# Altium footprint library board.PcbLib: 19 footprints (part 1 of 2)
Each footprint in its own frame and in the unit in brackets; x right, y up, seen from the top. Pads: shape width x height; smd on the part's side, far side on the other; paste and mask are expansions set on the pad; w line width, h text height; cw(c..) or ccw(c..) is an arc to the next point about the centre after c.
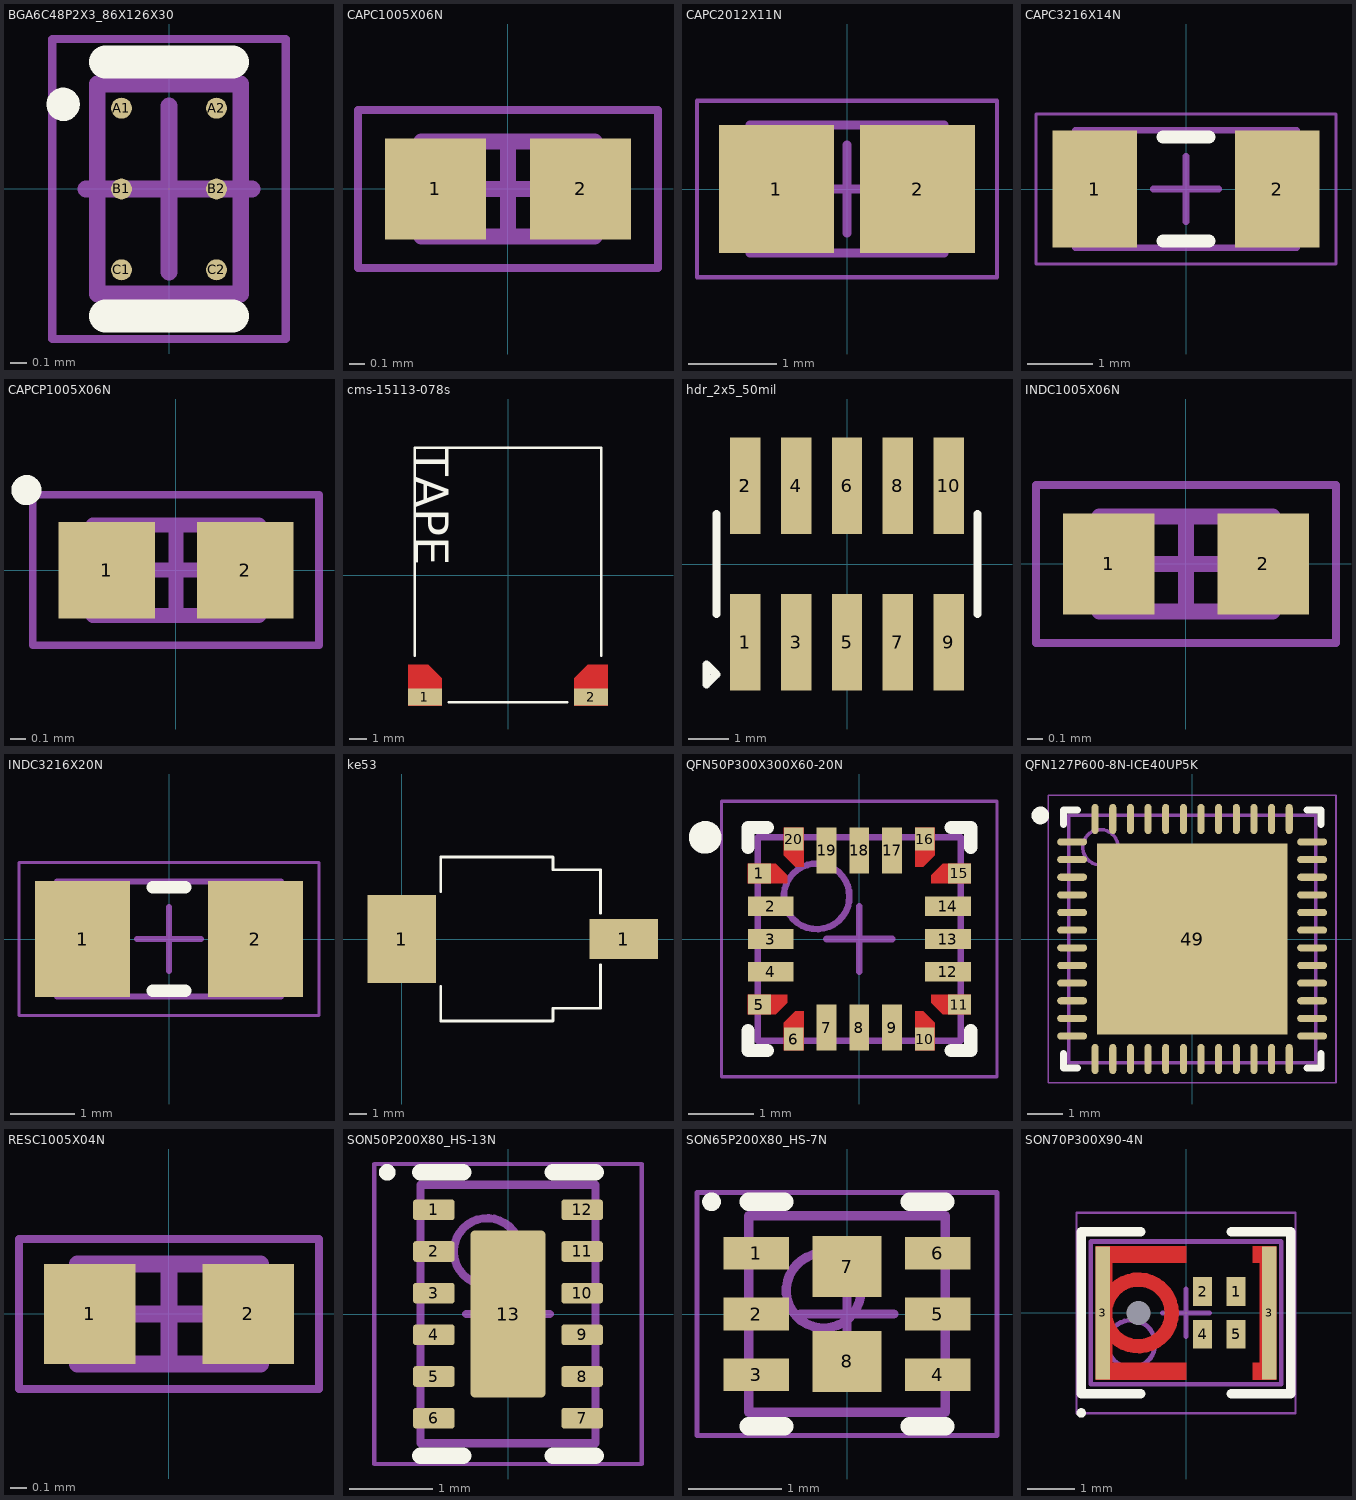
[diagram p0: the footprints below, top view; thin cyan lines are the x and y axes]

## BGA6C48P2X3_86X126X30 [mm] "BGA, 6-Leads, Body 0,86x1,26mmx0,30mm, Pitch 0,49mm"
height 0.3
pads (6):
  round 0.126 smd mask+0.05: A1(-0.285,0.485) A2(0.285,0.485) B1(-0.285,0) B2(0.285,0) C1(-0.285,-0.485) C2(0.285,-0.485)
Top Overlay:
  circle w0.1: c-0.635,0.508 r0.05
  lines w0.2: -0.381,-0.762 0.381,-0.762 ; -0.381,0.762 0.381,0.762
Mechanical 13:
  lines w0.1: -0.43,-0.63 -0.43,0.63 0.43,0.63 0.43,-0.63 -0.43,-0.63
Mechanical 15:
  lines w0.05: -0.7,-0.9 -0.7,0.9 0.7,0.9 0.7,-0.9 -0.7,-0.9
  lines w0.1: -0.5,0 0.5,0 ; 0,-0.5 0,0.5
3D body "BGA6C48P2X3_86X126X30.step": height 0.3, standoff 0, extent -0.43,-0.63 0.43,0.63

## CAPC1005X06N [mm] "Chip Capacitor, 2-Leads, Body 1.00x0.50mm, IPC Medium Density"
height 0.6
pads (2):
  rect 0.64x0.64 smd: 1(-0.46,0) 2(0.46,0)
Mechanical 13:
  lines w0.1: -0.55,-0.3 0.55,-0.3 0.55,0.3 -0.55,0.3 -0.55,-0.3
Mechanical 15:
  lines w0.05: -0.95,-0.5 0.95,-0.5 0.95,0.5 -0.95,0.5 -0.95,-0.5
  lines w0.1: -0.3,0 0.3,0 ; 0,-0.3 0,0.3
3D body "CAPC1005X06N.step": height 0.6, standoff 0, extent -0.55,-0.3 0.55,0.3

## CAPC2012X11N [mm] "Chip Capacitor, 2-Leads, Body 2.00x1.25mm, IPC Medium Density"
height 1.1
pads (2):
  rect 1.3x1.45 smd: 1(-0.8,0) 2(0.8,0)
Mechanical 13:
  lines w0.1: -1.1,-0.725 -1.1,0.725 1.1,0.725 1.1,-0.725 -1.1,-0.725
Mechanical 15:
  lines w0.05: -1.7,-1 -1.7,1 1.7,1 1.7,-1 -1.7,-1
  lines w0.1: -0.5,0 0.5,0 ; 0,-0.5 0,0.5
3D body "CAPC2012X11N.step": height 1.1, standoff 0, extent -1.1,-0.725 1.1,0.725

## CAPC3216X14N [mm] "Chip Capacitor, 2-Leads, Body 3.20x1.60mm, IPC Medium Density"
height 1.35
pads (2):
  rect 1.3x1.8 smd: 1(-1.4,0) 2(1.4,0)
Top Overlay:
  lines w0.2: -0.35,-0.8 0.35,-0.8 ; -0.35,0.8 0.35,0.8
Mechanical 13:
  lines w0.1: -1.7,-0.9 -1.7,0.9 1.7,0.9 1.7,-0.9 -1.7,-0.9
Mechanical 15:
  lines w0.05: -2.3,-1.15 -2.3,1.15 2.3,1.15 2.3,-1.15 -2.3,-1.15
  lines w0.1: -0.5,0 0.5,0 ; 0,-0.5 0,0.5
3D body "CAPC3216X14N.step": height 1.35, standoff 0, extent -1.7,-0.9 1.7,0.9

## CAPCP1005X06N [mm] "Chip Capacitor, 2-Leads, Body 1.00x0.50mm, IPC Medium Density"
height 0.6
pads (2):
  rect 0.64x0.64 smd: 1(-0.46,0) 2(0.46,0)
Top Overlay:
  circle w0.1: c-0.992,0.532 r0.05
Mechanical 13:
  lines w0.1: -0.55,-0.3 -0.55,0.3 0.55,0.3 0.55,-0.3 -0.55,-0.3
Mechanical 15:
  lines w0.05: -0.95,-0.5 -0.95,0.5 0.95,0.5 0.95,-0.5 -0.95,-0.5
  lines w0.1: -0.3,0 0.3,0 ; 0,-0.3 0,0.3
3D body "APHHS1005.STEP": height 0.5, standoff 0, extent -0.5,-0.25 0.5,0.25

## cms-15113-078s [mm]
pads (2):
  rect 2x1 smd: 1(-4.9,-7.2) 2(4.9,-7.2)
Top Layer:
  region: -3.9,-7.7 -3.9,-6.1 -4.7,-5.3 -5.9,-5.3 -5.9,-7.7
  region: 3.9,-7.7 3.9,-6.1 4.7,-5.3 5.9,-5.3 5.9,-7.7
Top Overlay:
  lines w0.152: -5.5,-4.75 -5.5,7.5 5.5,7.5 5.5,-4.75 ; -3.5,-7.5 3.5,-7.5
  text "TAPE" at -5.5,7.5 h2
3D body "CUI_INC_CMS-15113-078S.step": height 3.2, standoff -0.78, extent -5.5,-7.5 5.5,7.5

## hdr_2x5_50mil [mm] "2x5 Pin header, 50mil pitch"
pads (11):
  rect 0.76x2.4 smd: 1(-2.54,-1.95) 2(-2.54,1.95) 2(-2.54,1.95) 3(-1.27,-1.95) 4(-1.27,1.95) 5(0,-1.95) 6(0,1.95) 7(1.27,-1.95) 8(1.27,1.95) 9(2.54,-1.95) 10(2.54,1.95)
Top Overlay:
  lines w0.2: -3.25,-1.25 -3.25,1.25 ; 3.25,-1.25 3.25,1.25 ; -3.5,-3 -3.5,-2.5 -3.25,-2.75 -3.5,-3
3D body "20021121-00010XXLFc.stp": height 4.5, standoff 0, extent -3.175,-2.75 3.175,2.75

## INDC1005X06N [mm] "Chip Inductor, 2-Leads, Body 1.00x0.50mm, IPC Medium Density"
height 0.6
pads (2):
  rect 0.58x0.64 smd: 1(-0.49,0) 2(0.49,0)
Mechanical 13:
  lines w0.1: -0.55,-0.3 -0.55,0.3 0.55,0.3 0.55,-0.3 -0.55,-0.3
Mechanical 15:
  lines w0.05: -0.95,-0.5 -0.95,0.5 0.95,0.5 0.95,-0.5 -0.95,-0.5
  lines w0.1: -0.3,0 0.3,0 ; 0,-0.3 0,0.3
3D body "INDC1005X06N.step": height 0.6, standoff 0, extent -0.55,-0.3 0.55,0.3

## INDC3216X20N [mm] "Chip Inductor, 2-Leads, Body 3.20x1.60mm, IPC Medium Density"
height 2
pads (2):
  rect 1.49x1.82 smd: 1(-1.355,0) 2(1.355,0)
Top Overlay:
  lines w0.2: -0.25,-0.81 0.25,-0.81 ; -0.25,0.81 0.25,0.81
Mechanical 13:
  lines w0.1: -1.75,-0.9 -1.75,0.9 1.75,0.9 1.75,-0.9 -1.75,-0.9
Mechanical 15:
  lines w0.05: -2.35,-1.2 -2.35,1.2 2.35,1.2 2.35,-1.2 -2.35,-1.2
  lines w0.1: -0.5,0 0.5,0 ; 0,-0.5 0,0.5
3D body "INDC3216X20N.step": height 2, standoff 0, extent -1.75,-0.9 1.75,0.9

## ke53 [mm]
pads (2):
  rect 3.96x5.08 smd: 1(0,0)
  rect 3.96x2.34 smd: 1(12.85,0)
Top Overlay:
  lines w0.152: 2.25,-2.75 2.25,-4.75 8.75,-4.75 8.75,-4 11.5,-4 11.5,-1.5 ; 2.25,2.75 2.25,4.75 8.75,4.75 8.75,4 11.5,4 11.5,1.5
3D body "keystone-PN53.STEP": height 15.64, standoff 0, extent -2,-6.655 14.796,6.655

## QFN50P300X300X60-20N [mm] "QFN, 20-Leads, Body 3.00x3.00mm, Pitch 0.50mm, IPC Medium Density"
height 0.6
pads (20):
  rect 0.35x0.3 smd: 1(-1.525,1) 5(-1.525,-1) 11(1.525,-1) 15(1.525,1)
  rect 0.7x0.3 smd: 2(-1.35,0.5) 3(-1.35,0) 4(-1.35,-0.5) 12(1.35,-0.5) 13(1.35,0) 14(1.35,0.5)
  rect 0.3x0.35 smd: 6(-1,-1.525) 10(1,-1.525) 16(1,1.525) 20(-1,1.525)
  rect 0.3x0.7 smd: 7(-0.5,-1.35) 8(0,-1.35) 9(0.5,-1.35) 17(0.5,1.35) 18(0,1.35) 19(-0.5,1.35)
Top Layer:
  region: -0.85,-1.7 -0.85,-1.1 -0.975,-1.1 -1.15,-1.275 -1.15,-1.7
  region: -1.7,-0.85 -1.1,-0.85 -1.1,-0.975 -1.275,-1.15 -1.7,-1.15
  region: -1.7,0.85 -1.1,0.85 -1.1,0.975 -1.275,1.15 -1.7,1.15
  region: -0.85,1.7 -0.85,1.1 -0.975,1.1 -1.15,1.275 -1.15,1.7
  region: 0.85,1.7 0.85,1.1 0.975,1.1 1.15,1.275 1.15,1.7
  region: 1.7,0.85 1.1,0.85 1.1,0.975 1.275,1.15 1.7,1.15
  region: 0.85,-1.7 0.85,-1.1 0.975,-1.1 1.15,-1.275 1.15,-1.7
  region: 1.7,-0.85 1.1,-0.85 1.1,-0.975 1.275,-1.15 1.7,-1.15
Top Overlay:
  circle w0.25: c-2.35,1.55 r0.125
  lines w0.2: -1.7,-1.4 -1.7,-1.7 -1.4,-1.7 ; -1.7,1.4 -1.7,1.7 -1.4,1.7 ; 1.4,-1.7 1.7,-1.7 1.7,-1.4 ; 1.4,1.7 1.7,1.7 1.7,1.4
Mechanical 13:
  circle w0.1: c-0.65,0.65 r0.5
  lines w0.1: -1.55,-1.55 -1.55,1.55 1.55,1.55 1.55,-1.55 -1.55,-1.55
Mechanical 15:
  lines w0.05: -2.1,-2.1 -2.1,2.1 2.1,2.1 2.1,-2.1 -2.1,-2.1
  lines w0.1: -0.5,0 0.5,0 ; 0,-0.5 0,0.5
3D body "QFN50P300X300X60-20N.step": height 0.6, standoff 0, extent -1.6,-1.6 1.6,1.6

## QFN127P600-8N-ICE40UP5K [mm]
height 1
pads (49):
  oval 0.85x0.2 smd: 1(-3.4,2.75) 2(-3.4,2.25) 3(-3.4,1.75) 4(-3.4,1.25) 5(-3.4,0.75) 6(-3.4,0.25) 7(-3.4,-0.25) 8(-3.4,-0.75) 9(-3.4,-1.25) 10(-3.4,-1.75) 11(-3.4,-2.25) 12(-3.4,-2.75) 25(3.4,-2.75) 26(3.4,-2.25) 27(3.4,-1.75) 28(3.4,-1.25) 29(3.4,-0.75) 30(3.4,-0.25) 31(3.4,0.25) 32(3.4,0.75) 33(3.4,1.25) 34(3.4,1.75) 35(3.4,2.25) 36(3.4,2.75)
  oval 0.2x0.85 smd: 13(-2.75,-3.4) 14(-2.25,-3.4) 15(-1.75,-3.4) 16(-1.25,-3.4) 17(-0.75,-3.4) 18(-0.25,-3.4) 19(0.25,-3.4) 20(0.75,-3.4) 21(1.25,-3.4) 22(1.75,-3.4) 23(2.25,-3.4) 24(2.75,-3.4) 37(2.75,3.4) 38(2.25,3.4) 39(1.75,3.4) 40(1.25,3.4) 41(0.75,3.4) 42(0.25,3.4) 43(-0.25,3.4) 44(-0.75,3.4) 45(-1.25,3.4) 46(-1.75,3.4) 47(-2.25,3.4) 48(-2.75,3.4)
  rect 5.4x5.4 smd: 49(0,0)
Top Overlay:
  circle w0.25: c-4.3,3.5 r0.125
  lines w0.2: -3.65,-3.25 -3.65,-3.65 -3.25,-3.65 ; -3.65,3.25 -3.65,3.65 -3.25,3.65 ; 3.25,-3.65 3.65,-3.65 3.65,-3.25 ; 3.25,3.65 3.65,3.65 3.65,3.25
Mechanical 13:
  circle w0.1: c-2.6,2.6 r0.5
  lines w0.1: -3.5,-3.5 3.5,-3.5 3.5,3.5 -3.5,3.5 -3.5,-3.5
Mechanical 15:
  lines w0.05: -4.075,-4.075 4.075,-4.075 4.075,4.075 -4.075,4.075 -4.075,-4.075
  lines w0.1: -0.5,0 0.5,0 ; 0,-0.5 0,0.5
3D body "QFN127P600-8N.step": height 1, standoff 0, extent -3.501,-3.501 3.501,3.501

## RESC1005X04N [mm] "Chip Resistor, 2-Leads, Body 1.05x0.54mm, IPC Medium Density"
height 0.4
pads (2):
  rect 0.55x0.6 smd: 1(-0.475,0) 2(0.475,0)
Mechanical 13:
  lines w0.1: -0.55,-0.3 -0.55,0.3 0.55,0.3 0.55,-0.3 -0.55,-0.3
Mechanical 15:
  lines w0.05: -0.9,-0.45 -0.9,0.45 0.9,0.45 0.9,-0.45 -0.9,-0.45
  lines w0.1: -0.3,0 0.3,0 ; 0,-0.3 0,0.3
3D body "RESC1005X04N.step": height 0.4, standoff 0, extent -0.55,-0.3 0.55,0.3

## SON50P200X80_HS-13N [mm] "SON, 12-Leads, Body 3,00x2,00mm, Pitch 0,50mm, Thermal Pad 2,00x0,48mm, IPC Medium Density"
height 0.8
pads (13):
  rrect30% 0.5x0.25 smd: 1(-0.89,1.25) 2(-0.89,0.75) 3(-0.89,0.25) 4(-0.89,-0.25) 5(-0.89,-0.75) 6(-0.89,-1.25) 7(0.89,-1.25) 8(0.89,-0.75) 9(0.89,-0.25) 10(0.89,0.25) 11(0.89,0.75) 12(0.89,1.25)
  rrect10% 0.9x2 smd: 13(0,0)
Top Overlay:
  circle w0.1: c-1.45,1.7 r0.05
  lines w0.2: -1.05,-1.7 -0.54,-1.7 ; -1.05,1.7 -0.54,1.7 ; 0.54,-1.7 1.05,-1.7 ; 0.54,1.7 1.05,1.7
Mechanical 13:
  circle w0.1: c-0.25,0.75 r0.4
  lines w0.1: -1.05,-1.55 -1.05,1.55 1.05,1.55 1.05,-1.55 -1.05,-1.55
Mechanical 15:
  lines w0.05: -1.605,-1.8 -1.605,1.8 1.605,1.8 1.605,-1.8 -1.605,-1.8
  lines w0.1: -0.5,0 0.5,0 ; 0,-0.5 0,0.5
3D body "SON50P200X80_HS-13N.step": height 0.8, standoff 0, extent -1.051,-1.55 1.051,1.55

## SON65P200X80_HS-7N [mm] "SON, 6-Leads, Body 2,00x2,00mm, Pitch 0,65mm, Thermal Pad 0,65x0,74mm, IPC Medium Density"
height 0.8
pads (8):
  rect 0.7x0.35 smd: 1(-0.97,0.65) 2(-0.97,0) 3(-0.97,-0.65) 4(0.97,-0.65) 5(0.97,0) 6(0.97,0.65)
  rect 0.74x0.65 smd: 7(0,0.508) 8(0,-0.508)
Top Overlay:
  circle w0.1: c-1.45,1.2 r0.05
  lines w0.2: -1.05,-1.2 -0.67,-1.2 ; -1.05,1.2 -0.67,1.2 ; 0.67,-1.2 1.05,-1.2 ; 0.67,1.2 1.05,1.2
Mechanical 13:
  circle w0.1: c-0.25,0.25 r0.4
  lines w0.1: -1.05,-1.05 1.05,-1.05 1.05,1.05 -1.05,1.05 -1.05,-1.05
Mechanical 15:
  lines w0.05: -1.605,-1.3 1.605,-1.3 1.605,1.3 -1.605,1.3 -1.605,-1.3
  lines w0.1: -0.5,0 0.5,0 ; 0,-0.5 0,0.5
3D body "SON65P200X80_HS-7N.step": height 0.8, standoff 0, extent -1.051,-1.05 1.051,1.05

## SON70P300X90-4N [mm] "SON, 4-Leads, Body 4,00x3,00mm, Pitch 0,70mm, IPC Medium Density"
height 0.9
pads (7):
  round 0 hole 0.5 unplated: 1(-1,0)
  rect 0.4x0.6 smd: 1(1.05,0.45) 2(0.35,0.45) 4(0.35,-0.45) 5(1.05,-0.45)
  rect 0.3x2.8 smd: 3(-1.75,0) 3(1.75,0)
Top Layer:
  circle w0.3: c-1,0 r0.7
  region: 0,-1.4 -1.9,-1.4 -1.9,1.4 0,1.4 0,1.05 -1.55,1.05 -1.55,-1.05 0,-1.05
  region: 1.4,-1.4 1.4,-1.05 1.55,-1.05 1.55,1.05 1.4,1.05 1.4,1.4 1.9,1.4 1.9,-1.4
Top Overlay:
  circle w0.1: c-2.2,-2.1 r0.05
  lines w0.2: -0.95,-1.7 -2.2,-1.7 -2.2,1.7 -0.95,1.7 ; 0.95,-1.7 2.2,-1.7 2.2,1.7 0.95,1.7
Mechanical 13:
  circle w0.1: c-1.15,-0.65 r0.5
  lines w0.1: -2,-1.5 2,-1.5 2,1.5 -2,1.5 -2,-1.5
Mechanical 15:
  lines w0.05: -2.3,-2.105 2.3,-2.105 2.3,2.105 -2.3,2.105 -2.3,-2.105
  lines w0.1: -0.5,0 0.5,0 ; 0,-0.5 0,0.5
3D body: height 1, standoff 0.1, extent -1.75,-1.25 1.75,1.25
3D body: height 0.24, standoff 0.05, extent -2,-1.5 2,1.5